# Altium footprint library SOIC-8.PcbLib: 1 footprints
Each footprint in its own frame and in the unit in brackets; x right, y up, seen from the top. Pads: shape width x height; smd on the part's side, far side on the other; paste and mask are expansions set on the pad; w line width, h text height; cw(c..) or ccw(c..) is an arc to the next point about the centre after c.
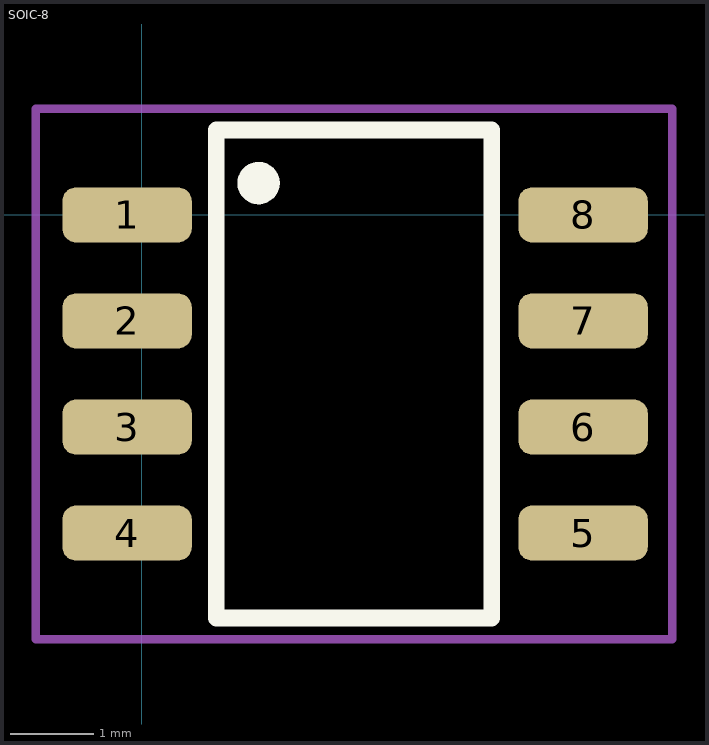
[diagram p0: the footprint, top view; thin cyan lines are the x and y axes]

## SOIC-8 [mm]
pads (8):
  rrect50% 1.55x0.66 smd: 1(-0.178,0) 2(-0.178,-1.27) 3(-0.178,-2.54) 4(-0.178,-3.81) 5(5.283,-3.81) 6(5.283,-2.54) 7(5.283,-1.27) 8(5.283,0)
Top Overlay:
  circle w0.254: c1.397,0.381 r0.127
  lines w0.2: 0.889,-4.826 4.191,-4.826 4.191,1.016 0.889,1.016 0.889,-4.826
Mechanical 15:
  lines w0.1: -1.27,-5.08 6.35,-5.08 6.35,1.27 -1.27,1.27 -1.27,-5.08
3D body "User Library-SOIC127P610X343-8N.STEP": height 3.48, standoff 0, extent -0.435,-4.825 5.565,1.015